# Altium footprint library Inductor_SMD.PcbLib: 259 footprints (part 15 of 17)
Each footprint in its own frame and in the unit in brackets; x right, y up, seen from the top. Pads: shape width x height; smd on the part's side, far side on the other; paste and mask are expansions set on the pad; w line width, h text height; cw(c..) or ccw(c..) is an arc to the next point about the centre after c.
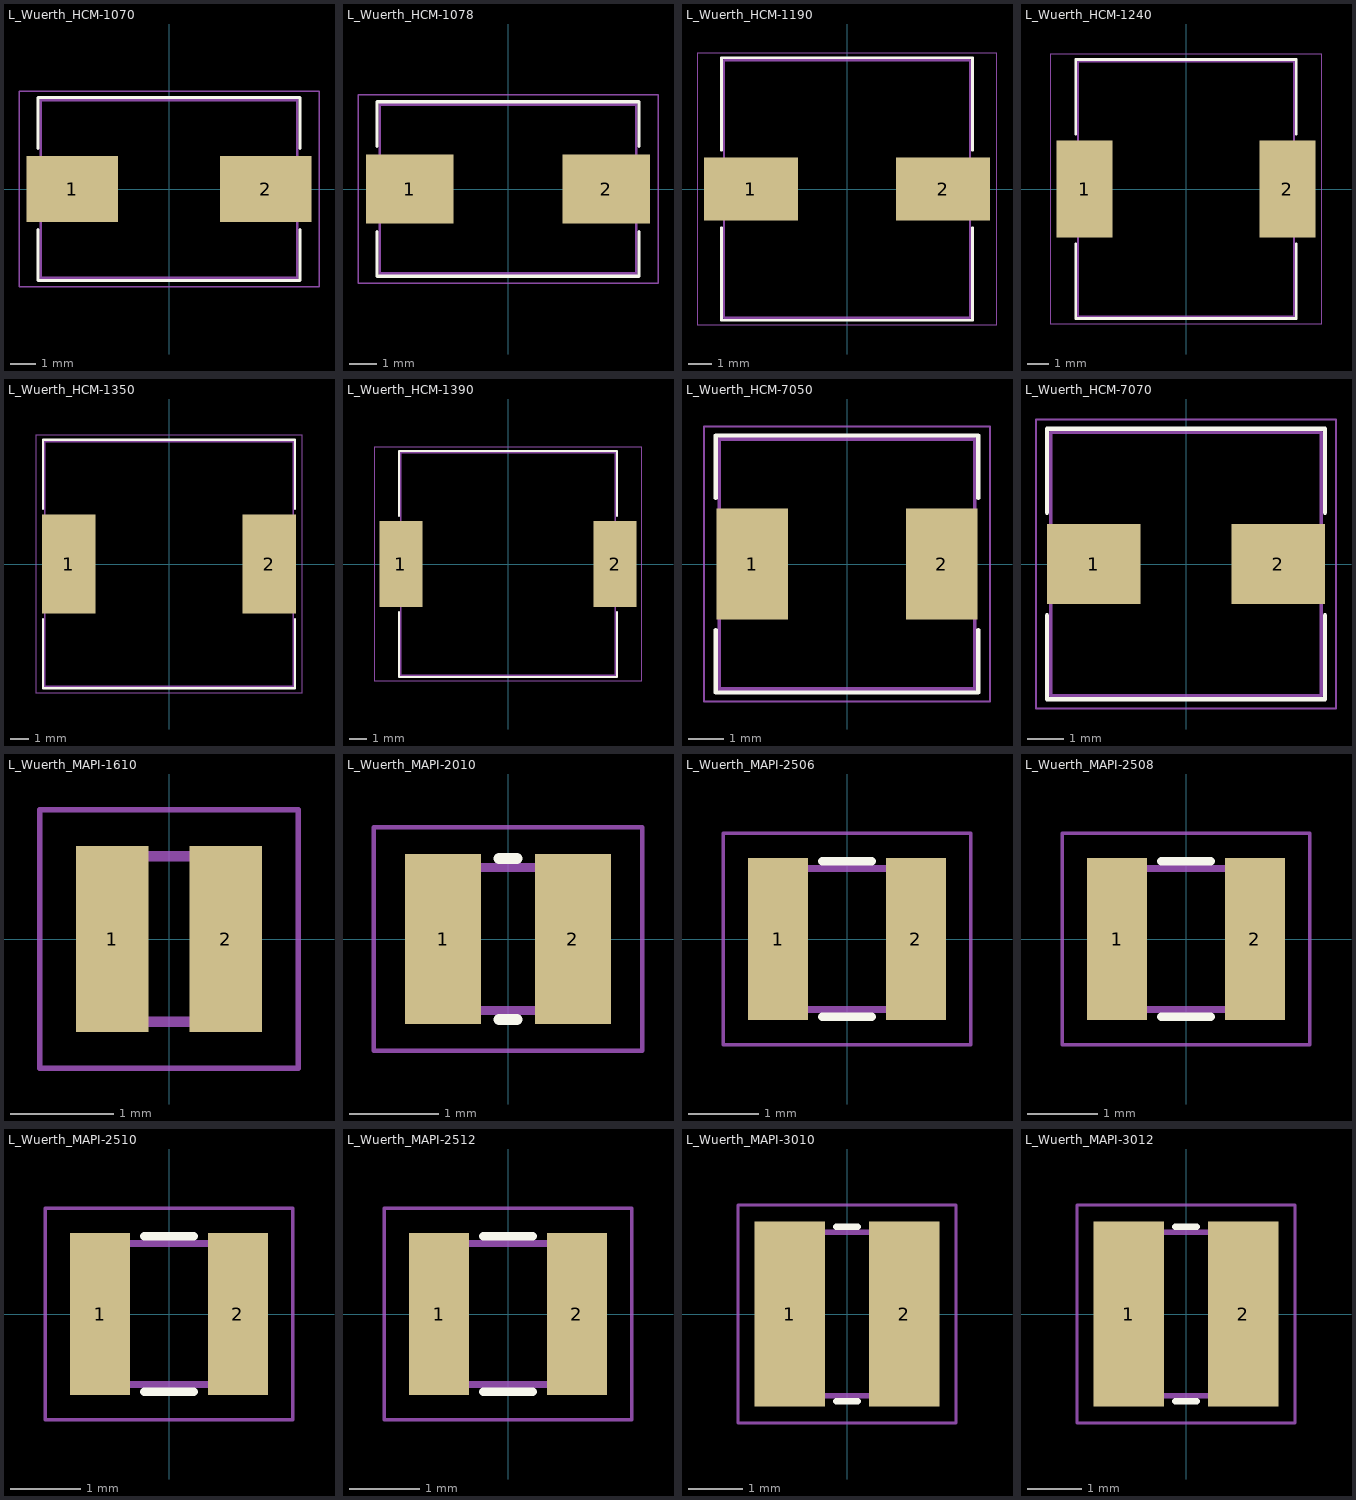
[diagram p14: the footprints below, top view; thin cyan lines are the x and y axes]

## L_Wuerth_HCM-1070 [mm]
pads (2):
  rect 3.6x2.6 smd: 1(-3.8,0) 2(3.8,0)
F.SilkS:
  lines w0.12: -5.15,-1.6 -5.15,-3.6 0,-3.6 5.15,-3.6 5.15,-1.6 ; -5.15,1.6 -5.15,3.6 0,3.6 5.15,3.6 5.15,1.6
F.CrtYd:
  lines w0.05: -5.9,-3.85 5.9,-3.85 5.9,3.85 -5.9,3.85 -5.9,-3.85
F.Fab:
  lines w0.1: -5.05,-3.5 -5.05,3.5 5.05,3.5 5.05,-3.5 -5.05,-3.5
  text "'.Designator'" at -4.047,-0.84 h1

## L_Wuerth_HCM-1078 [mm]
pads (2):
  rect 3.2x2.54 smd: 1(-3.6,0) 2(3.6,0)
F.SilkS:
  lines w0.12: -4.8,-1.57 -4.8,-3.2 0,-3.2 4.8,-3.2 4.8,-1.57 ; -4.8,1.57 -4.8,3.2 0,3.2 4.8,3.2 4.8,1.57
F.CrtYd:
  lines w0.05: -5.5,-3.45 5.5,-3.45 5.5,3.45 -5.5,3.45 -5.5,-3.45
F.Fab:
  lines w0.1: -4.7,-3.1 4.7,-3.1 4.7,3.1 -4.7,3.1 -4.7,-3.1
  text "'.Designator'" at -4.047,-0.84 h1

## L_Wuerth_HCM-1190 [mm]
pads (2):
  rect 4x2.7 smd: 1(-4.1,0) 2(4.1,0)
F.SilkS:
  lines w0.12: -5.35,-1.65 -5.35,-5.6 0,-5.6 5.35,-5.6 5.35,-1.65 ; -5.35,1.65 -5.35,5.6 0,5.6 5.35,5.6 5.35,1.65
F.CrtYd:
  lines w0.05: -6.4,-5.8 6.4,-5.8 6.4,5.8 -6.4,5.8 -6.4,-5.8
F.Fab:
  lines w0.1: -5.25,-5.5 5.25,-5.5 5.25,5.5 -5.25,5.5 -5.25,-5.5
  text "'.Designator'" at -4.047,-0.84 h1

## L_Wuerth_HCM-1240 [mm]
pads (2):
  rect 2.6x4.5 smd: 1(-4.7,0) 2(4.7,0)
F.SilkS:
  lines w0.12: -5.1,-2.55 -5.1,-6 0,-6 5.1,-6 5.1,-2.55 ; -5.1,2.55 -5.1,6 0,6 5.1,6 5.1,2.55
F.CrtYd:
  lines w0.05: -6.3,-6.25 -6.3,6.25 6.3,6.25 6.3,-6.25 -6.3,-6.25
F.Fab:
  lines w0.1: -5,-5.9 -5,5.9 5,5.9 5,-5.9 -5,-5.9
  text "'.Designator'" at -4.047,-0.84 h1

## L_Wuerth_HCM-1350 [mm]
pads (2):
  rect 2.9x5.4 smd: 1(-5.45,0) 2(5.45,0)
F.SilkS:
  lines w0.12: -6.85,-3 -6.85,-6.75 0,-6.75 6.85,-6.75 6.85,-3 ; -6.85,3 -6.85,6.75 0,6.75 6.85,6.75 6.85,3
F.CrtYd:
  lines w0.05: -7.25,-7 7.25,-7 7.25,7 -7.25,7 -7.25,-7
F.Fab:
  lines w0.1: -6.75,-6.65 6.75,-6.65 6.75,6.65 -6.75,6.65 -6.75,-6.65
  text "'.Designator'" at -4.047,-0.84 h1

## L_Wuerth_HCM-1390 [mm]
pads (2):
  rect 2.5x5 smd: 1(-6.25,0) 2(6.25,0)
F.SilkS:
  lines w0.12: -6.35,-2.8 -6.35,-6.6 0,-6.6 6.35,-6.6 6.35,-2.8 ; -6.35,2.8 -6.35,6.6 0,6.6 6.35,6.6 6.35,2.8
F.CrtYd:
  lines w0.05: -7.8,-6.8 7.8,-6.8 7.8,6.8 -7.8,6.8 -7.8,-6.8
F.Fab:
  lines w0.1: -6.25,-6.5 6.25,-6.5 6.25,6.5 -6.25,6.5 -6.25,-6.5
  text "'.Designator'" at -4.047,-0.84 h1

## L_Wuerth_HCM-7050 [mm]
pads (2):
  rect 2x3.1 smd: 1(-2.65,0) 2(2.65,0)
F.SilkS:
  lines w0.12: -3.675,-1.85 -3.675,-3.6 0,-3.6 3.675,-3.6 3.675,-1.85 ; -3.675,1.85 -3.675,3.6 0,3.6 3.675,3.6 3.675,1.85
F.CrtYd:
  lines w0.05: -4,-3.85 -4,3.85 4,3.85 4,-3.85 -4,-3.85
F.Fab:
  lines w0.1: -3.575,-3.5 3.575,-3.5 3.575,3.5 -3.575,3.5 -3.575,-3.5
  text "'.Designator'" at -4.047,-0.84 h1

## L_Wuerth_HCM-7070 [mm]
pads (2):
  rect 2.55x2.2 smd: 1(-2.525,0) 2(2.525,0)
F.SilkS:
  lines w0.12: -3.8,-1.4 -3.8,-3.7 0,-3.7 3.8,-3.7 3.8,-1.4 ; -3.8,1.4 -3.8,3.7 0,3.7 3.8,3.7 3.8,1.4
F.CrtYd:
  lines w0.05: -4.1,-3.95 4.1,-3.95 4.1,3.95 -4.1,3.95 -4.1,-3.95
F.Fab:
  lines w0.1: -3.7,-3.6 -3.7,3.6 3.7,3.6 3.7,-3.6 -3.7,-3.6
  text "'.Designator'" at -4.047,-0.84 h1

## L_Wuerth_MAPI-1610 [mm]
pads (2):
  rect 0.7x1.8 smd: 1(-0.55,0) 2(0.55,0)
F.CrtYd:
  lines w0.05: -1.25,-1.25 -1.25,1.25 1.25,1.25 1.25,-1.25 -1.25,-1.25
F.Fab:
  lines w0.1: -0.8,-0.8 -0.8,0.8 0.8,0.8 0.8,-0.8 -0.8,-0.8
  text "'.Designator'" at -1.219,-0.257 h0.3

## L_Wuerth_MAPI-2010 [mm]
pads (2):
  rect 0.85x1.9 smd: 1(-0.725,0) 2(0.725,0)
F.SilkS:
  lines w0.12: -0.1,-0.9 0.1,-0.9 ; -0.1,0.9 0.1,0.9
F.CrtYd:
  lines w0.05: -1.5,-1.25 1.5,-1.25 1.5,1.25 -1.5,1.25 -1.5,-1.25
F.Fab:
  lines w0.1: -1,-0.8 1,-0.8 1,0.8 -1,0.8 -1,-0.8
  text "'.Designator'" at -1.634,-0.351 h0.4

## L_Wuerth_MAPI-2506 [mm]
pads (2):
  rect 0.85x2.3 smd: 1(-0.975,0) 2(0.975,0)
F.SilkS:
  lines w0.12: -0.35,-1.1 0.35,-1.1 ; -0.35,1.1 0.35,1.1
F.CrtYd:
  lines w0.05: -1.75,-1.5 1.75,-1.5 1.75,1.5 -1.75,1.5 -1.75,-1.5
F.Fab:
  lines w0.1: -1.25,-1 1.25,-1 1.25,1 -1.25,1 -1.25,-1
  text "'.Designator'" at -2.428,-0.504 h0.6

## L_Wuerth_MAPI-2508 [mm]
pads (2):
  rect 0.85x2.3 smd: 1(-0.975,0) 2(0.975,0)
F.SilkS:
  lines w0.12: -0.35,-1.1 0.35,-1.1 ; -0.35,1.1 0.35,1.1
F.CrtYd:
  lines w0.05: -1.75,-1.5 1.75,-1.5 1.75,1.5 -1.75,1.5 -1.75,-1.5
F.Fab:
  lines w0.1: -1.25,-1 1.25,-1 1.25,1 -1.25,1 -1.25,-1
  text "'.Designator'" at -2.428,-0.504 h0.6

## L_Wuerth_MAPI-2510 [mm]
pads (2):
  rect 0.85x2.3 smd: 1(-0.975,0) 2(0.975,0)
F.SilkS:
  lines w0.12: -0.35,-1.1 0.35,-1.1 ; -0.35,1.1 0.35,1.1
F.CrtYd:
  lines w0.05: -1.75,-1.5 -1.75,1.5 1.75,1.5 1.75,-1.5 -1.75,-1.5
F.Fab:
  lines w0.1: -1.25,-1 -1.25,1 1.25,1 1.25,-1 -1.25,-1
  text "'.Designator'" at -2.428,-0.504 h0.6

## L_Wuerth_MAPI-2512 [mm]
pads (2):
  rect 0.85x2.3 smd: 1(-0.975,0) 2(0.975,0)
F.SilkS:
  lines w0.12: -0.35,-1.1 0.35,-1.1 ; -0.35,1.1 0.35,1.1
F.CrtYd:
  lines w0.05: -1.75,-1.5 -1.75,1.5 1.75,1.5 1.75,-1.5 -1.75,-1.5
F.Fab:
  lines w0.1: -1.25,-1 -1.25,1 1.25,1 1.25,-1 -1.25,-1
  text "'.Designator'" at -2.428,-0.504 h0.6

## L_Wuerth_MAPI-3010 [mm]
pads (2):
  rect 1.3x3.4 smd: 1(-1.05,0) 2(1.05,0)
F.SilkS:
  lines w0.12: -0.2,-1.6 0.2,-1.6 ; -0.2,1.6 0.2,1.6
F.CrtYd:
  lines w0.05: -2,-2 2,-2 2,2 -2,2 -2,-2
F.Fab:
  lines w0.1: -1.5,-1.5 -1.5,1.5 1.5,1.5 1.5,-1.5 -1.5,-1.5
  text "'.Designator'" at -2.833,-0.588 h0.7

## L_Wuerth_MAPI-3012 [mm]
pads (2):
  rect 1.3x3.4 smd: 1(-1.05,0) 2(1.05,0)
F.SilkS:
  lines w0.12: -0.2,-1.6 0.2,-1.6 ; -0.2,1.6 0.2,1.6
F.CrtYd:
  lines w0.05: -2,-2 -2,2 2,2 2,-2 -2,-2
F.Fab:
  lines w0.1: -1.5,-1.5 -1.5,1.5 1.5,1.5 1.5,-1.5 -1.5,-1.5
  text "'.Designator'" at -2.833,-0.588 h0.7